# Altium footprint library QUTMS_OpAmpLibrary.PcbLib: 2 footprints
Each footprint in its own frame and in the unit in brackets; x right, y up, seen from the top. Pads: shape width x height; smd on the part's side, far side on the other; paste and mask are expansions set on the pad; w line width, h text height; cw(c..) or ccw(c..) is an arc to the next point about the centre after c.
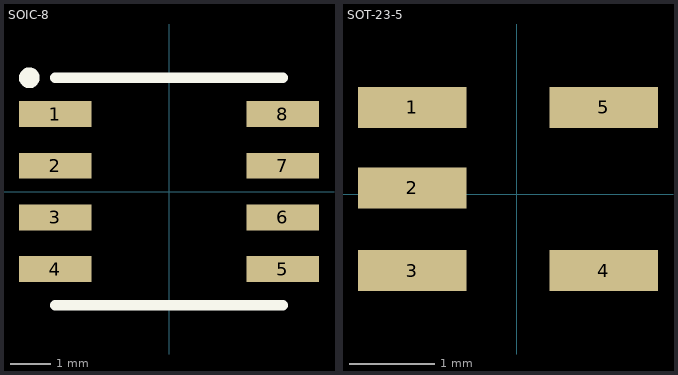
[diagram p0: the footprints below, top view; thin cyan lines are the x and y axes]

## SOIC-8 [mil]
pads (8):
  rect 70x25 smd: 1(-110,75) 2(-110,25) 3(-110,-25) 4(-110,-75) 5(110,-75) 6(110,-25) 7(110,25) 8(110,75)
Top Overlay:
  circle w10: c-135,110 r5
  lines w10: -110,-110 110,-110 ; -110,110 110,110
3D body "soic8_p1-27_l5-0_w4-0.stp": height 74.96, standoff 0.16, extent -122.04,-98.43 122.05,98.43

## SOT-23-5 [mil]
pads (5):
  rect 50x19 smd: 1(-48,40) 2(-48,3) 3(-48,-35) 4(40,-35) 5(40,40)
3D body "SOT-23-5.stp": height 39.37, standoff 0, extent -47.24,-54.49 47.25,59.69